# EAGLE library part USB-MICRO (library innove-con-usb)
USB Micro Connector The most ubiquitous USB connector these days. Created by Nathan Campos
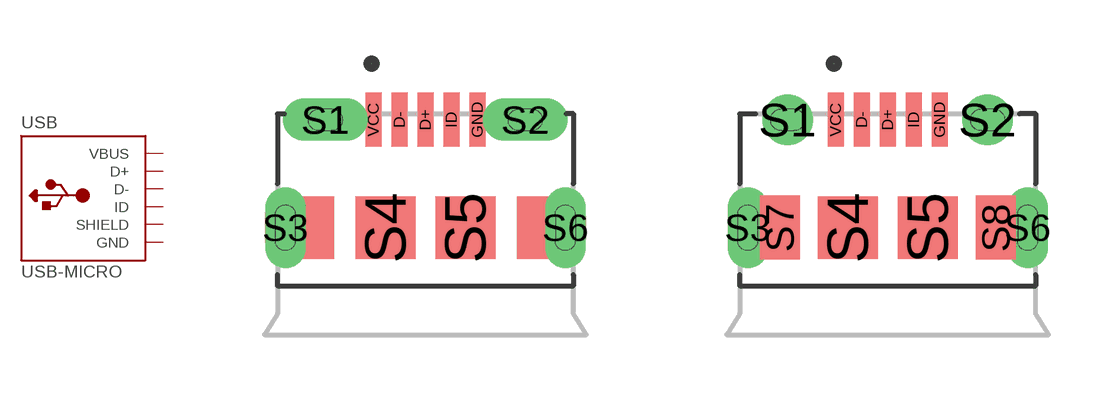
[diagram p0: symbol with the pads of AMPHENOL_10118194-0001LF-ORIGINAL; footprints AMPHENOL_10118194-0001LF-ORIGINAL, AMPHENOL_10118194-0001LF]

Designator prefix USB

## USB-MICRO-10118194-0001LF-ORIGINAL  [AMPHENOL_10118194-0001LF-ORIGINAL]
D+  D+
D-  D-
GND  GND  pwr
ID  ID
S1  SHIELD  pwr
S2  SHIELD  pwr
S3  SHIELD  pwr
S4  SHIELD  pwr
S5  SHIELD  pwr
S6  SHIELD  pwr
VCC  VBUS  pwr

## USB-MICRO-10118194-0001LF  [AMPHENOL_10118194-0001LF]
D+  D+
D-  D-
GND  GND  pwr
ID  ID
S1  SHIELD  pwr
S2  SHIELD  pwr
S3  SHIELD  pwr
S4  SHIELD  pwr
S5  SHIELD  pwr
S6  SHIELD  pwr
S7  SHIELD  pwr
S8  SHIELD  pwr
VCC  VBUS  pwr

## Footprint AMPHENOL_10118194-0001LF-ORIGINAL (pad centres in mm)
smd 0.4 x 1.35: D+ 0,2.7; D- -0.65,2.7; GND 1.3,2.7; ID 0.65,2.7; VCC -1.3,2.7
drill 0.55 pad 0.65 long: S1 -2.5,2.7; S2 2.5,2.7
drill 0.5 pad 0.775 long: S3 -3.5,0; S6 3.5,0
smd 1.5 x 1.55: S4 -1,0; S5 1,0

## Footprint AMPHENOL_10118194-0001LF (pad centres in mm)
smd 0.4 x 1.35: D+ 0,2.7; D- -0.65,2.7; GND 1.3,2.7; ID 0.65,2.7; VCC -1.3,2.7
drill 0.55 pad 1.27: S1 -2.5,2.7; S2 2.5,2.7
drill 0.5 long: S3 -3.5,0; S6 3.5,0
smd 1.5 x 1.55: S4 -1,0; S5 1,0
smd 1 x 1.6: S7 -2.7,0; S8 2.7,0